# Altium schematic symbol library E_Tactile_Display.SchLib: 2 symbols
Pins are listed as number, name and electrical type; pins without a type are passive.

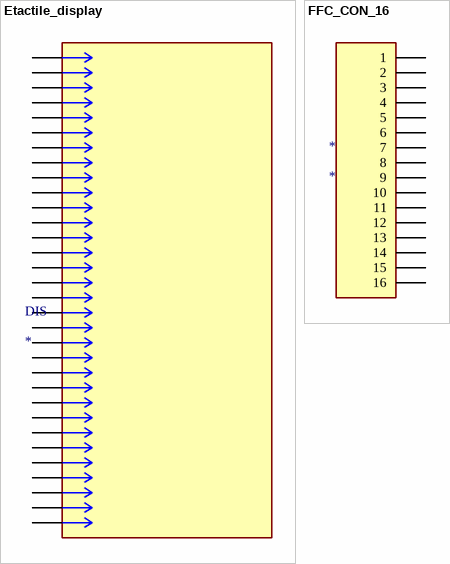
[diagram p0: symbols Etactile_display to FFC_CON_16]

## Etactile_display
designator DIS
footprint Electrode_Display
pins: 0 32, 1, 2, 3, 4, 5, 6, 7, 8, 9, 10, 11, 12, 13, 14, 15, 16, 17, 18, 19, 20, 21, 22, 23, 24, 25, 26, 27, 28, 29, 30, 31

## FFC_CON_16
designator *
footprint 16_pin_smd_connector_pads
pins: 1, 2, 3, 4, 5, 6, 7, 8, 9, 10, 11, 12, 13, 14, 15, 16